# EAGLE library part TXB0106PWR (library RoboJackets-ICs)
Voltage Level Translator Bidirectional 1 Circuit 6 Channel 100Mbps 16-TSSOP Datasheet <https://www.ti.com/general/docs/suppproductinfo.tsp?distId=10&gotoUrl=http%253A%252F%252Fwww.ti.com%252Flit%252Fgpn%252Ftxb0106>
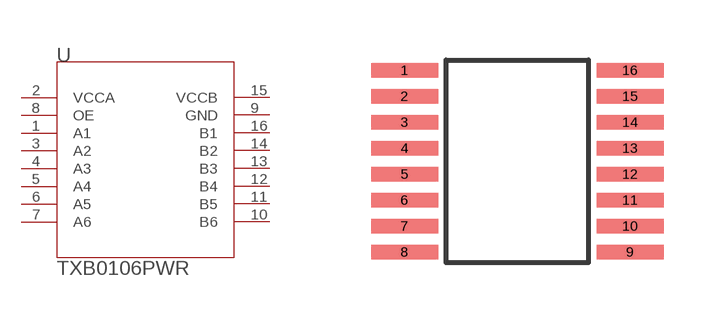
[diagram p19: symbol with the pads of PW16; footprint PW16]

Designator prefix U

## TXB0106PWR (DKPN: 296-23759-1-ND)  [PW16]
1  A1  pas
2  VCCA  pas
3  A2  pas
4  A3  pas
5  A4  pas
6  A5  pas
7  A6  pas
8  OE  pas
9  GND  pas
10  B6  pas
11  B5  pas
12  B4  pas
13  B3  pas
14  B2  pas
15  VCCB  pas
16  B1  pas

## Footprint PW16 (pad centres in mm)
smd 1.676 x 0.356: 1 -2.819,2.275; 2 -2.819,1.625; 3 -2.819,0.975; 4 -2.819,0.325; 5 -2.819,-0.325; 6 -2.819,-0.975; 7 -2.819,-1.625; 8 -2.819,-2.275; 9 2.819,-2.275; 10 2.819,-1.625; 11 2.819,-0.975; 12 2.819,-0.325; 13 2.819,0.325; 14 2.819,0.975; 15 2.819,1.625; 16 2.819,2.275